# Altium integrated library Button.IntLib: 7 symbols
Pins are listed as number, name and electrical type; pins without a type are passive.

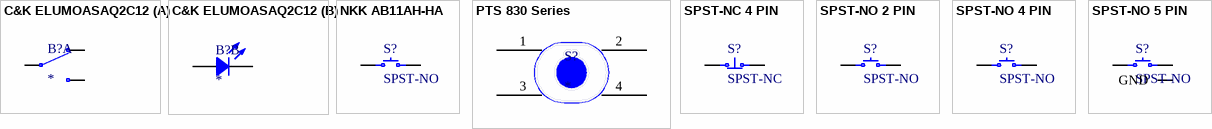
[diagram p0: symbols C&K ELUMOASAQ2C12 to SPST-NO 5 PIN]

## C&K ELUMOASAQ2C12
designator B?
footprint C&K ELUMOASAQ2C12
part A pins: 2 NO, 3 C, 4 NC
part B pins: 1 C, 5 A

## NKK AB11AH-HA
designator S?, comment SPST-NO
footprint NKK AB11AH-HA
footprint NKK AB11AH-HC
pins: 1, 3

## PTS 830 Series
designator S?
Supplier 1: Digi-Key; Supplier Part Number 1: CKN10589TR-ND
footprint PTS 830 Series
pins: 1, 2, 3, 4

## SPST-NC 4 PIN
designator S?, comment SPST-NC
footprint TE FSM4JSMA
pins: 1, 2, 3, 4

## SPST-NO 2 PIN
designator S?, comment SPST-NO
footprint C&K KXT
footprint TE FSMSMTR
footprint ESWITCH TL3750
pins: 1, 2

## SPST-NO 4 PIN
designator S?, comment SPST-NO
footprint TE FSM4JSMA
pins: 1, 2, 3, 4

## SPST-NO 5 PIN
designator S?, comment SPST-NO
footprint TE FSM1LPATR
pins: 1, 2, 3, 4, 5 GND